# EAGLE library part WE-LAN-10/100-BASE-T,749010012A (library Wurth_Elektronik_EMC_COMPONENTS_rev16c)
LAN-Transformer WE-LAN 10/100 Base T - Compliant with IEEE 802.3 standards - SMD -- Ethernet -- Power over Ethernet -- 1 Gigabit Ethernet -- Compliant with most IC's for ethernet applications like Intel, AMD, Globespan and Realtek -- Hub, Router, Switch <http://katalog.we-online.de/media/images/v2/Family_WE-LAN.jpg> Details see: http://katalog.we-online.de/en/pbs/WE-LAN/S/749010011? 2016 (C) Würth Elektronik
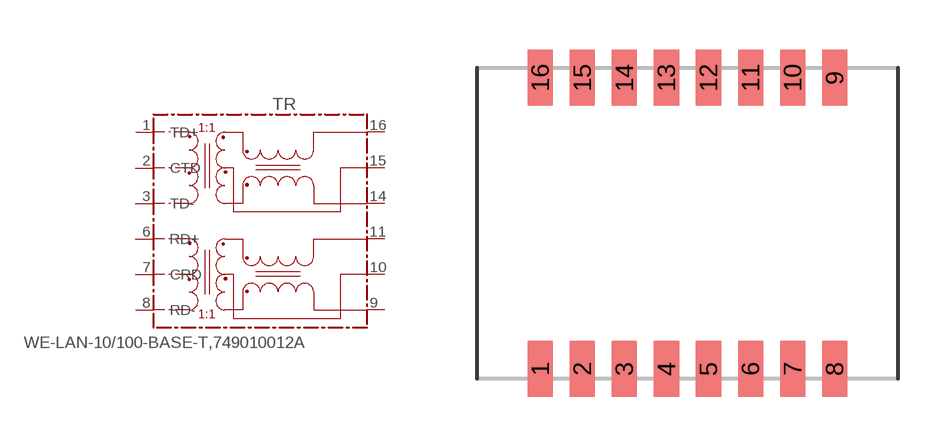
[diagram p257: symbol with the pads of 7490100110A/749010012A; footprint 7490100110A/749010012A]

Designator prefix TR

## WE-LAN-10/100-BASE-T,749010012A  [7490100110A/749010012A]
1  TD+
2  CTD
3  TD-
6  RD+
7  CRD
8  RD-
9  RX-
10  CRX
11  RX+
14  TX-
15  CTX
16  TX+

## Footprint 7490100110A/749010012A (pad centres in mm)
smd 0.76 x 1.7: 1 -4.445,-4.4; 2 -3.175,-4.4; 3 -1.905,-4.4; 4 -0.635,-4.4; 5 0.635,-4.4; 6 1.905,-4.4; 7 3.175,-4.4; 8 4.445,-4.4; 9 4.445,4.4; 10 3.175,4.4; 11 1.905,4.4; 12 0.635,4.4; 13 -0.635,4.4; 14 -1.905,4.4; 15 -3.175,4.4; 16 -4.445,4.4